# EAGLE library part DIODE_4DARRAY_CC_6PIN (library ModernDevice.l#1)
4 Diodes Arranged 2 Pairs Common-Cathode <SOT 666> 30V prv .2V vf (1ma) Digikey 568-3414-1-ND
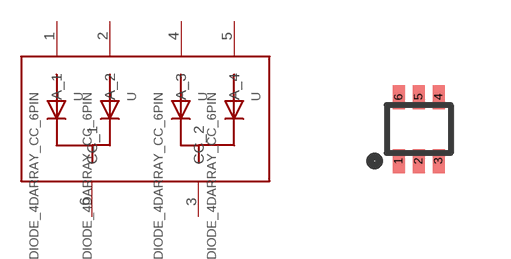
[diagram p41: symbol with the pads of SOT666; footprint SOT666]

Designator prefix -

## DIODE_4DARRAY_CC_6PIN  [SOT666]
1  A_1
2  A_2
3  CC_2
4  A_3
5  A_4
6  CC_1

## Footprint SOT666 (pad centres in mm)
smd 0.3 x 0.6: 1 -0.5,-0.8; 2 0,-0.8; 3 0.5,-0.8; 4 0.5,0.8; 5 0,0.8; 6 -0.5,0.8